# EAGLE library part ARDUINO-DUE (library magzor)
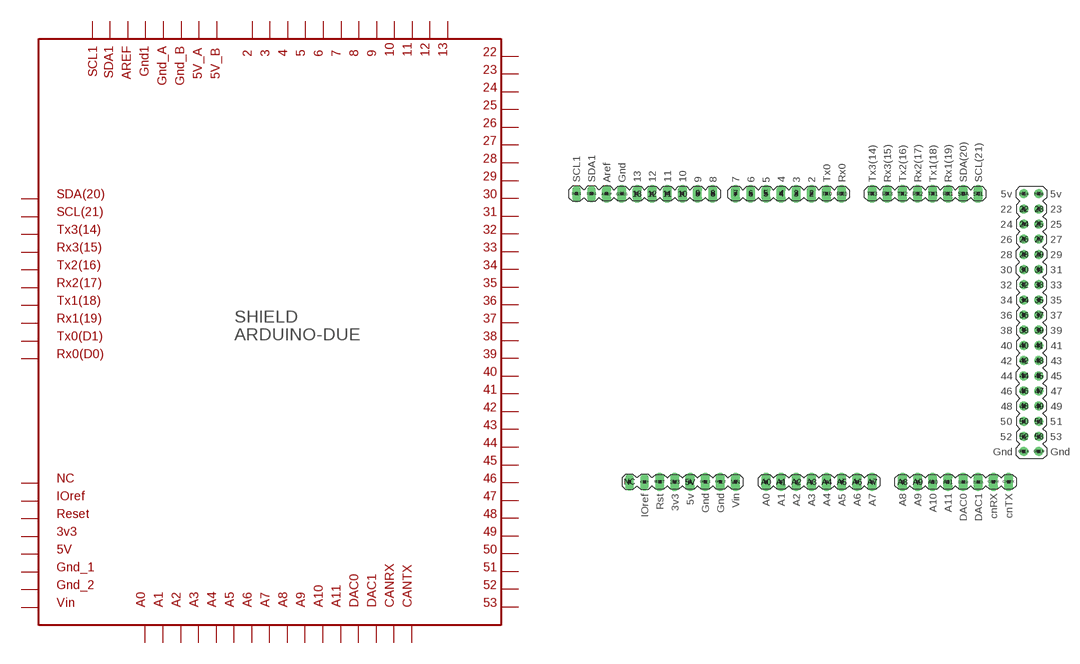
[diagram p25: symbol with the pads of ARDUINO-DUE; footprint ARDUINO-DUE]

Designator prefix SHIELD

## ARDUINO-DUE-SHIELD  [ARDUINO-DUE]
2  2
3  3
3V3  3V3
4  4
5  5
5V  5V
5V_A  5V_A
5V_B  5V_B
6  6
7  7
8  8
9  9
10  10
11  11
12  12
13  13
22  22
23  23
24  24
25  25
26  26
27  27
28  28
29  29
30  30
31  31
32  32
33  33
34  34
35  35
36  36
37  37
38  38
39  39
40  40
41  41
42  42
43  43
44  44
45  45
46  46
47  47
48  48
49  49
50  50
51  51
52  52
53  53
A0  A0
A1  A1
A2  A2
A3  A3
A4  A4
A5  A5
A6  A6
A7  A7
A8  A8
A9  A9
A10  A10
A11  A11
AREF  AREF
CANRX  CANRX
CANTX  CANTX
DAC0  DAC0
DAC1  DAC1
GND1  GND1
GND_1  GND_1
GND_2  GND_2
GND_A  GND_A
GND_B  GND_B
IOREF  IOREF
NC  NC
RESET  RESET
RX0  RX0
RX1  RX1
RX2  RX2
RX3  RX3
SCL  SCL
SCL1  SCL1
SDA  SDA
SDA1  SDA1
TX0  TX0
TX1  TX1
TX2  TX2
TX3  TX3
VIN  VIN

## Footprint ARDUINO-DUE (pad centres in mm)
drill 1 long: 2 2.54,24.13; 3 0,24.13; 3V3 -20.32,-24.13; 4 -2.54,24.13; 5 -5.08,24.13; 5V -17.78,-24.13; 6 -7.62,24.13; 7 -10.16,24.13; 8 -13.97,24.13; 9 -16.51,24.13; 10 -19.05,24.13; 11 -21.59,24.13; 12 -24.13,24.13; 13 -26.67,24.13; A0 -5.08,-24.13; A1 -2.54,-24.13; A2 0,-24.13; A3 2.54,-24.13; A4 5.08,-24.13; A5 7.62,-24.13; A6 10.16,-24.13; A7 12.7,-24.13; A8 17.78,-24.13; A9 20.32,-24.13; A10 22.86,-24.13; A11 25.4,-24.13; AREF -31.75,24.13; CANRX 33.02,-24.13; CANTX 35.56,-24.13; DAC0 27.94,-24.13; DAC1 30.48,-24.13; GND1 -29.21,24.13; GND_1 -15.24,-24.13; GND_2 -12.7,-24.13; RESET -22.86,-24.13; RX0 7.62,24.13; RX1 25.4,24.13; RX2 20.32,24.13; RX3 15.24,24.13; SCL 30.48,24.13; SDA 27.94,24.13; TX0 5.08,24.13; TX1 22.86,24.13; TX2 17.78,24.13; TX3 12.7,24.13; VIN -10.16,-24.13
drill 1: 5V_A 38.1,24.13; 5V_B 40.64,24.13; 22 38.1,21.59; 23 40.64,21.59; 24 38.1,19.05; 25 40.64,19.05; 26 38.1,16.51; 27 40.64,16.51; 28 38.1,13.97; 29 40.64,13.97; 30 38.1,11.43; 31 40.64,11.43; 32 38.1,8.89; 33 40.64,8.89; 34 38.1,6.35; 35 40.64,6.35; 36 38.1,3.81; 37 40.64,3.81; 38 38.1,1.27; 39 40.64,1.27; 40 38.1,-1.27; 41 40.64,-1.27; 42 38.1,-3.81; 43 40.64,-3.81; 44 38.1,-6.35; 45 40.64,-6.35; 46 38.1,-8.89; 47 40.64,-8.89; 48 38.1,-11.43; 49 40.64,-11.43; 50 38.1,-13.97; 51 40.64,-13.97; 52 38.1,-16.51; 53 40.64,-16.51; GND_A 38.1,-19.05; GND_B 40.64,-19.05
drill 0.8 pad 1.422 long: IOREF -25.4,-24.13; NC -27.94,-24.13; SCL1 -36.83,24.13; SDA1 -34.29,24.13